# Altium footprint library Footprints.PcbLib: 67 footprints (part 5 of 5)
Each footprint in its own frame and in the unit in brackets; x right, y up, seen from the top. Pads: shape width x height; smd on the part's side, far side on the other; paste and mask are expansions set on the pad; w line width, h text height; cw(c..) or ccw(c..) is an arc to the next point about the centre after c.
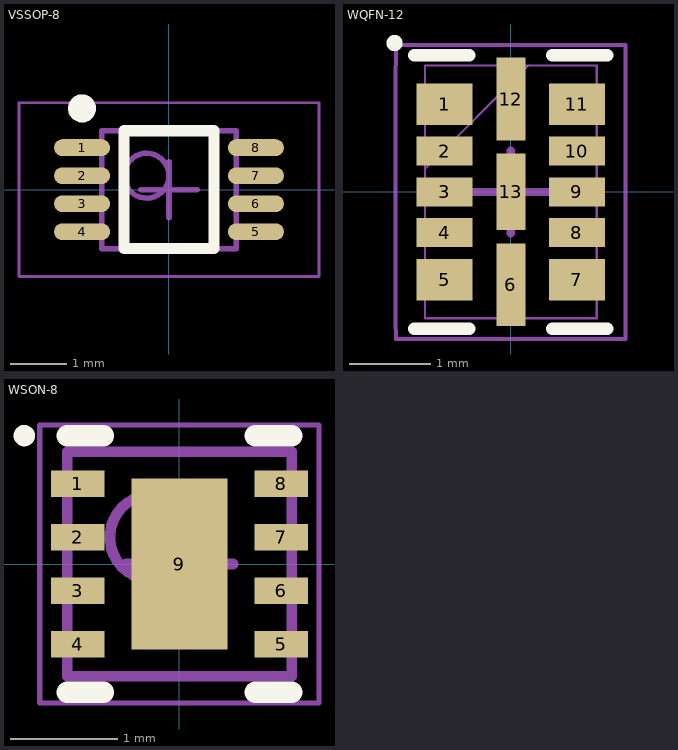
[diagram p4: the footprints below, top view; thin cyan lines are the x and y axes]

## VSSOP-8 [mm] "Very thin shrink small outline package; 8 leads; 0.5 mm pitch"
height 0.9
pads (8):
  oval 1x0.3 smd: 1(-1.55,0.75) 2(-1.55,0.25) 3(-1.55,-0.25) 4(-1.55,-0.75) 5(1.55,-0.75) 6(1.55,-0.25) 7(1.55,0.25) 8(1.55,0.75)
Top Overlay:
  circle w0.25: c-1.55,1.45 r0.125
  lines w0.2: -0.8,-1.05 -0.8,1.05 0.8,1.05 0.8,-1.05 -0.8,-1.05
Mechanical 13:
  circle w0.1: c-0.4,0.25 r0.4
  lines w0.1: -1.2,-1.05 -1.2,1.05 1.2,1.05 1.2,-1.05 -1.2,-1.05
Mechanical 15:
  lines w0.05: -2.675,-1.55 -2.675,1.55 2.675,1.55 2.675,-1.55 -2.675,-1.55
  lines w0.1: -0.5,0 0.5,0 ; 0,-0.5 0,0.5
3D body "VSSOP8.step": height 0.9, standoff 0, extent -1.549,-1.05 1.549,1.05

## WQFN-12 [mil]
pads (13):
  rect 27x20 smd paste+0 mask+0: 1(-31.89,42.33) 5(-31.89,-42.33) 7(31.89,-42.33) 11(31.89,42.33)
  rect 27x14 smd paste+0 mask+0: 2(-31.89,19.69) 3(-31.89,0) 4(-31.89,-19.69) 8(31.89,-19.69) 9(31.89,0) 10(31.89,19.69)
  rect 14x40 smd paste+0 mask+0: 6(0,-44.78) 12(0,44.78)
  rect 14x37 smd paste-18 mask+0: 13(0,0)
Top Overlay:
  circle w3.94: c-56.1,71.85 r1.97
  lines w6: -46.5,-66 -20.04,-66 ; -46.5,66 -20.04,66 ; 20.04,-66 46.5,-66 ; 20.04,66 46.5,66
Mechanical 13:
  lines w1: -41.5,11 8.5,61 ; -41.5,-61 -41.5,61 41.5,61 41.5,-61 -41.5,-61
  text "*" at -5.89,14.38 h50
Mechanical 15:
  lines w1.97: -55.66,-61.97 -55.66,50.79 -55.39,71 -17,71 17,71 55.39,71 55.39,56.38 55.39,-56.38 55.39,-71 17,-71 -17,-71 -55.39,-71 -55.66,-61.97
  lines w3.94: -20,0 0,0 ; 0,-20 0,20 0,0 ; 20,0 0,0
3D body: height 13.78, standoff 0, extent -41.34,-61.02 41.34,61.02

## WSON-8 [mm] "PSON, 8-Leads, Body 2.00x2.00mm, Pitch 0.50mm, Thermal Pad 1.60x0.90mm, IPC Medium Density"
height 0.8
pads (9):
  rect 0.5x0.25 smd: 1(-0.95,0.75) 2(-0.95,0.25) 3(-0.95,-0.25) 4(-0.95,-0.75) 5(0.95,-0.75) 6(0.95,-0.25) 7(0.95,0.25) 8(0.95,0.75)
  rect 0.9x1.6 smd: 9(0,0)
Top Overlay:
  circle w0.1: c-1.45,1.2 r0.05
  lines w0.2: -1.05,-1.2 -0.71,-1.2 ; -1.05,1.2 -0.71,1.2 ; 0.71,-1.2 1.05,-1.2 ; 0.71,1.2 1.05,1.2
Mechanical 13:
  circle w0.1: c-0.25,0.25 r0.4
  lines w0.1: -1.05,-1.05 1.05,-1.05 1.05,1.05 -1.05,1.05 -1.05,-1.05
Mechanical 15:
  lines w0.05: -1.305,-1.3 1.305,-1.3 1.305,1.3 -1.305,1.3 -1.305,-1.3
  lines w0.1: -0.5,0 0.5,0 ; 0,-0.5 0,0.5
3D body "PSON50P200X80_HS-9N.step": height 0.8, standoff 0, extent -1.051,-1.05 1.051,1.05